# EAGLE library part SD_CARD (library ArdDisp)
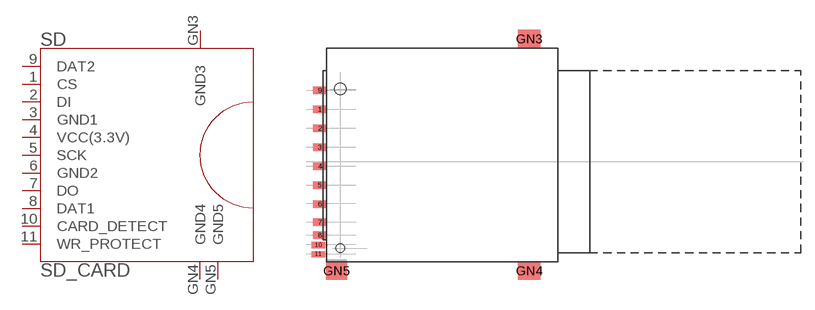
[diagram p16: symbol with the pads of SD_CARD; footprint SD_CARD]

Designator prefix SD

## SD_CARD  [SD_CARD]
1  CS  in
2  DI
3  GND1
4  VCC(3.3V)
5  SCK
6  GND2
7  DO
8  DAT1
9  DAT2
10  CARD_DETECT
11  WR_PROTECT
GN3  GND3
GN4  GND4
GN5  GND5

## Footprint SD_CARD (pad centres in mm)
smd 1.8 x 1: 1 -14.6,5; 2 -14.6,2.5; 3 -14.6,0; 4 -14.6,-2.5; 5 -14.6,-5; 6 -14.6,-7.5; 7 -14.6,-9.9; 8 -14.6,-11.6; 9 -14.6,7.5
smd 1.8 x 0.8: 10 -14.8,-12.9; 11 -14.8,-14.1
smd 3 x 2.4: GN3 13,14.3; GN4 13,-16.3
smd 2.8 x 2.4: GN5 -12.4,-16.3
hole 1.5 at -11.9,7.7
hole 1.1 at -11.9,-13.3